# Altium footprint library TC2030-IDC-NL.PcbLib: 1 footprints
Each footprint in its own frame and in the unit in brackets; x right, y up, seen from the top. Pads: shape width x height; smd on the part's side, far side on the other; paste and mask are expansions set on the pad; w line width, h text height; cw(c..) or ccw(c..) is an arc to the next point about the centre after c.
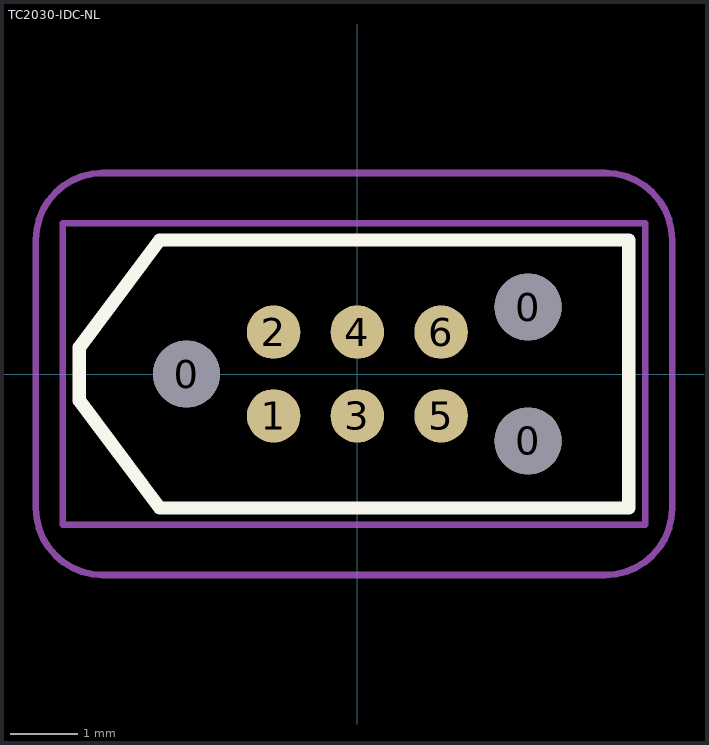
[diagram p0: the footprint, top view; thin cyan lines are the x and y axes]

## TC2030-IDC-NL [mm]
pads (9):
  round 1 hole 1 unplated: 0(-2.55,0) 0(2.55,-1) 0(2.55,1)
  round 0.8 smd paste-2539.97: 1(-1.25,-0.625) 2(-1.25,0.625) 3(0,-0.625) 4(0,0.625) 5(1.25,-0.625) 6(1.25,0.625)
Top Overlay:
  lines w0.2: -4.15,-0.4 -2.95,-2 4.05,-2 4.05,2 -2.95,2 -4.15,0.4 -4.15,-0.4
Mechanical 1:
  lines w0.1: 3.7,3 cw(c3.7,2) 4.7,2 4.7,-2 cw(c3.7,-2) 3.7,-3 -3.8,-3 cw(c-3.8,-2) -4.8,-2 -4.8,2 cw(c-3.8,2) -3.8,3 3.7,3 ; 3.7,3 3.7,3
  text "Overlay Area Height = 4.2mm" at -2.85,1.6 h0.4
  text "Mech1 Area Height = 10.2mm" at -2.85,-1.775 h0.4
Top Courtyard:
  lines w0.1: -4.4,-2.25 4.3,-2.25 4.3,2.25 -4.4,2.25 -4.4,-2.25
3D body "TC2030_STEP.STEP": height 22.2, standoff -2.3, extent -4.8,-3 4.7,3